# EAGLE library part 10X2 (library Boards)
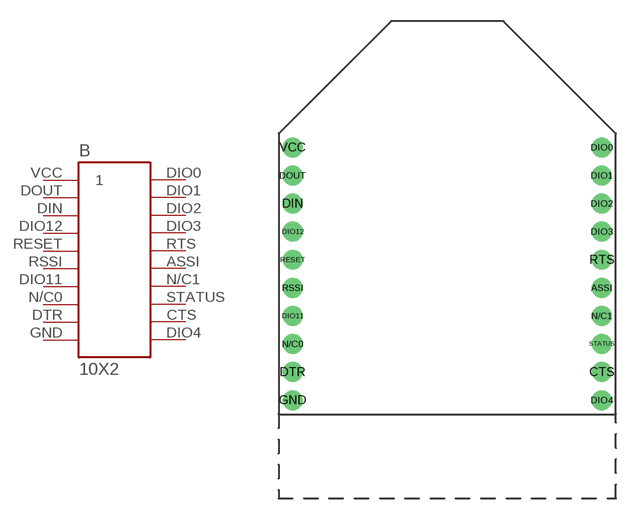
[diagram p3: symbol with the pads of XBEE; footprint XBEE]

Designator prefix B

## 10X2XBEE  [XBEE]
ASSI  P$15
CTS  P$12
DIN  P$3
DIO0  P$20
DIO1  P$19
DIO2  P$18
DIO3  P$17
DIO4  P$11
DIO11  P$7
DIO12  P$4
DOUT  P$2
DTR  P$9
GND  P$10
N/C0  P$8
N/C1  P$14
RESET  P$5
RSSI  P$6
RTS  P$16
STATUS  P$13
VCC  1

## Footprint XBEE (pad centres in mm)
drill 0.8 pad 1.422: ASSI 11,-10; CTS 11,-16; DIN -11,-4; DIO0 11,0; DIO1 11,-2; DIO2 11,-4; DIO3 11,-6; DIO4 11,-18; DIO11 -11,-12; DIO12 -11,-6; DOUT -11,-2; DTR -11,-16; GND -11,-18; N/C0 -11,-14; N/C1 11,-12; RESET -11,-8; RSSI -11,-10; RTS 11,-8; STATUS 11,-14; VCC -11,0